# Altium footprint library USB-A.PcbLib: 1 footprints
Each footprint in its own frame and in the unit in brackets; x right, y up, seen from the top. Pads: shape width x height; smd on the part's side, far side on the other; paste and mask are expansions set on the pad; w line width, h text height; cw(c..) or ccw(c..) is an arc to the next point about the centre after c.
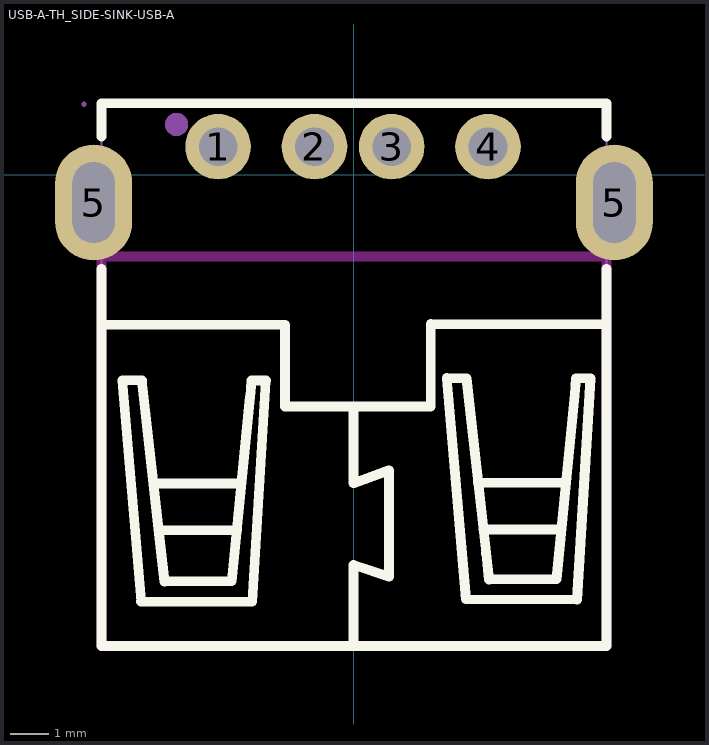
[diagram p0: the footprint, top view; thin cyan lines are the x and y axes]

## USB-A-TH_SIDE-SINK-USB-A [mm]
pads (6):
  round 1.7 hole 1: 1(-3.525,0.725) 2(-1.025,0.725) 3(0.975,0.725) 4(3.475,0.725)
  oval 2x3 hole 1.1 slot 2.1 at 90 deg: 5(-6.75,-0.725) 5(6.75,-0.725)
Top Overlay:
  lines w0.254: -6.555,-3.89 -1.789,-3.893 -1.789,-6.013 1.991,-6.013 1.991,-3.873 6.525,-3.88 ; -6.55,-2.44 -6.55,-12.225 6.55,-12.225 6.55,-2.44 ; -6.55,0.99 -6.55,1.85 6.55,1.85 6.55,0.99 ; -5.52,-11.066 -2.637,-11.077 -2.287,-5.334 ; -5.514,-11.068 -6.009,-5.333 -5.5,-5.337 -4.99,-9.877 -4.915,-10.556 ; -5.205,-8.01 -2.944,-8.01 ; -5.065,-9.22 -3.035,-9.22 ; -4.921,-10.553 -3.171,-10.542 -2.697,-5.764 ; -2.691,-5.767 -2.661,-5.337 -2.281,-5.337 ; -0.01,-12.225 -0.01,-11.755 -0.009,-10.123 0.91,-10.425 0.91,-7.665 -0.009,-8.003 -0.01,-6.015 ; 3.215,-7.99 5.476,-7.99 ; 3.355,-9.2 5.385,-9.2 ; 2.407,-5.277 2.902,-11.012 5.785,-11.023 6.135,-5.28 5.755,-5.28 5.725,-5.71 5.251,-10.488 3.501,-10.499 3.426,-9.821 2.916,-5.281 2.407,-5.277
Keep-Out Layer:
  lines w0.254: -6.55,-2.125 -6.55,-12.225 -6.55,-2.125 ; -6.55,-2.125 6.55,-2.125 ; -6.55,-2.125 6.55,-2.125 ; 6.55,-2.125 6.55,-2.125 ; 6.55,-2.125 6.55,-12.225 6.55,-2.125 ; 6.55,-2.125 6.55,-2.125
Mechanical 6:
  circle w0.3: c-4.6,1.3 r0.15
Mechanical 15:
  region: -6.94,1.825 -6.94,1.85 -6.975,1.885 -7.025,1.885 -7.06,1.85 -7.06,1.825 -7.06,1.8 -7.025,1.765 -6.975,1.765 -6.94,1.8 -6.94,1.825
  region: 3.775,0.575 3.175,0.575 3.175,0.875 3.775,0.875
  region: 1.275,0.575 0.675,0.575 0.675,0.875 1.275,0.875
  region: -0.725,0.575 -1.325,0.575 -1.325,0.875 -0.725,0.875
  region: -3.825,0.875 -3.225,0.875 -3.225,0.575 -3.825,0.575
  region: 6.275,0.225 6.575,0.225 6.575,-1.675 6.275,-1.675
  region: -6.575,0.225 -6.275,0.225 -6.275,-1.675 -6.575,-1.675
  region: 6.275,0.225 7,0.225 7,-1.675 6.275,-1.675
  region: -6.275,-1.675 -7,-1.675 -7,0.225 -6.275,0.225
  lines w0.051: -6.55,-12.225 -6.55,1.825 6.55,1.825 6.55,-12.225 -6.55,-12.225
3D body "USB-A.SLDPRT": height 5.84, standoff -1.42, extent -7.594,-12.21 7.706,1.84